# Altium footprint library SOD.PcbLib: 7 footprints
Each footprint in its own frame and in the unit in brackets; x right, y up, seen from the top. Pads: shape width x height; smd on the part's side, far side on the other; paste and mask are expansions set on the pad; w line width, h text height; cw(c..) or ccw(c..) is an arc to the next point about the centre after c.
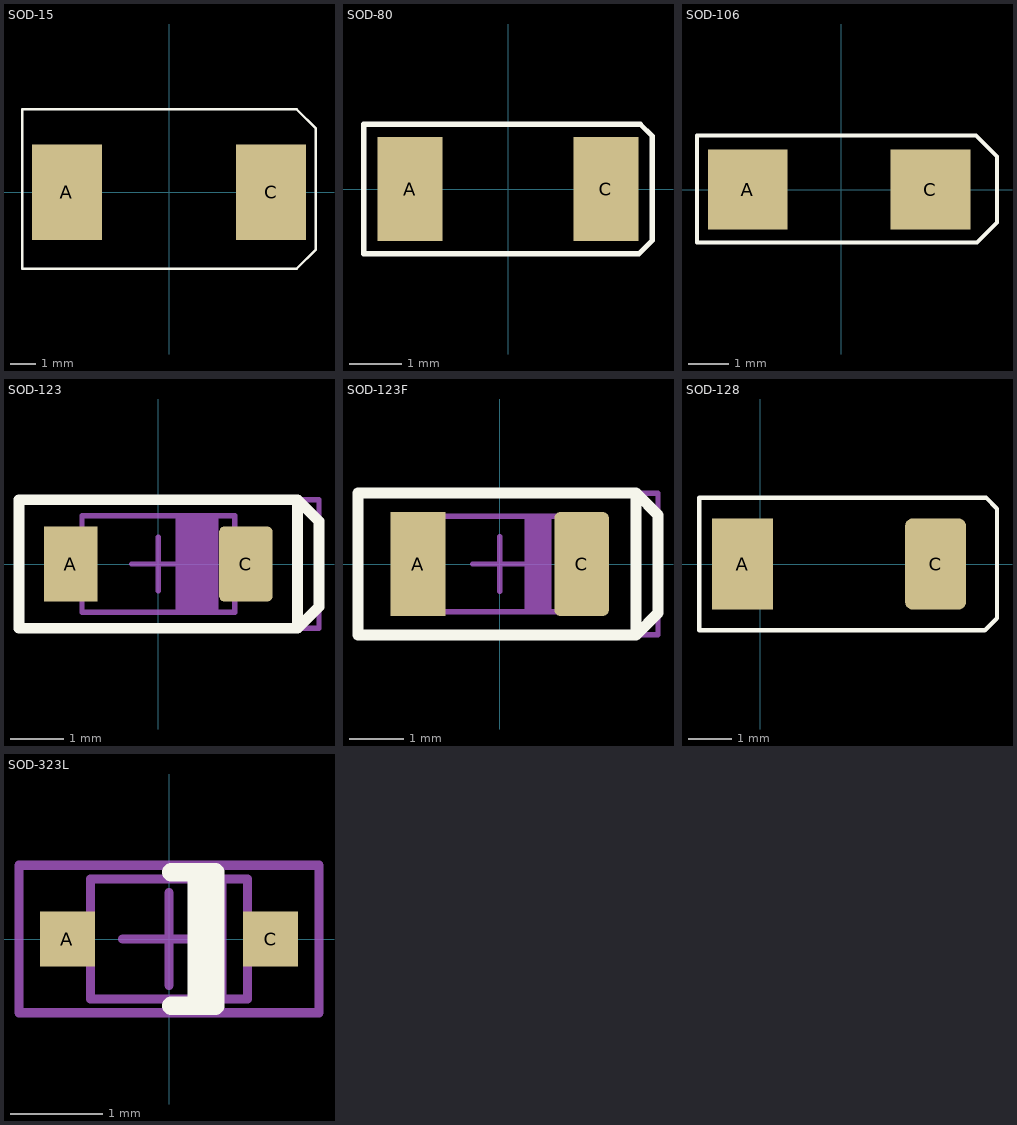
[diagram p0: the footprints below, top view; thin cyan lines are the x and y axes]

## SOD-15 [mil]
height 78.74
pads (2):
  rect 110x150 smd: A(-160,0) C(160,0)
Top Overlay:
  lines w3.94: -230,-120 -230,130 200,130 230,100 230,-90 200,-120 -230,-120
3D body "User Library-DO-214AB(SMC).step": height 105.12, standoff 1.12, extent -160,-129.01 160,118.99

## SOD-80 [mm]
pads (2):
  rect 1.25x2 smd: A(-1.88,0) C(1.88,0)
Top Overlay:
  lines w0.1: -2.769,-1.245 2.515,-1.245 2.769,-0.991 2.769,1.016 2.54,1.245 -2.769,1.245 -2.769,-1.245
3D body "User Library-SOD80-2.step": height 1.57, standoff 0.03, extent -1.676,-0.77 1.676,0.77

## SOD-106 [mm]
height 2
pads (2):
  rect 2x2 smd: A(-2.337,0) C(2.235,0)
Top Overlay:
  lines w0.1: -3.607,-1.321 -3.607,1.346 3.378,1.346 3.9,0.824 3.9,-0.824 3.404,-1.321 -3.607,-1.321
3D body "User Library-DO-214AC SMA.step": height 2.4, standoff 0, extent -2.651,-1.3 2.549,1.3

## SOD-123 [mm]
pads (2):
  rect 1x1.4 smd: A(-1.635,0)
  rrect20% 1x1.4 smd: C(1.635,0)
Top Overlay:
  lines w0.2: 2.6,-1.2 -2.6,-1.2 -2.6,1.2 2.6,1.2 ; 2.6,-1.2 2.6,1.2 ; 2.6,-1.2 3,-0.8 3,0.8 2.6,1.2
Top Package:
  rectangle: 0.375,-0.9 1.1,0.9
  lines w0.1: -1.425,-0.35 -1.925,-0.35 -1.925,0.35 -1.425,0.35 ; 0.375,-0.9 0.375,0.9 ; 1.075,-0.9 1.075,0.9 ; 1.425,-0.35 1.925,-0.35 1.925,0.35 1.425,0.35 ; -1.425,-0.9 1.425,-0.9 1.425,0.9 -1.425,0.9 -1.425,-0.9
Top Border:
  lines w0.1: -0.5,0 0.5,0 ; 0,-0.5 0,0.5 ; -2.6,-1.2 3,-1.2 3,1.2 -2.6,1.2 -2.6,-1.2
3D body "User Library-SOD-123_DiodesInc.step": height 1.42, standoff -0.03, extent -2,-0.886 1.85,0.814

## SOD-123F [mm]
height 0.95
pads (2):
  rect 1x1.9 smd: A(-1.5,0)
  rrect20% 1x1.9 smd: C(1.5,0)
Top Overlay:
  lines w0.2: 2.5,-1.2 2.5,1.2 ; -2.6,-1.3 2.5,-1.3 2.9,-0.9 2.9,0.9 2.5,1.3 -2.6,1.3 -2.6,-1.3
Top Package:
  region: 0.95,0.875 0.45,0.875 0.45,-0.875 0.95,-0.875
  lines w0.1: -1.35,-0.45 -1.7,-0.45 -1.7,0.45 -1.35,0.45 ; 1.35,-0.45 1.7,-0.45 1.7,0.45 1.35,0.45 ; -1.35,-0.875 1.35,-0.875 1.35,0.875 -1.35,0.875 -1.35,-0.875
Top Border:
  lines w0.1: -0.5,0 0.5,0 ; 0,-0.5 0,0.5 ; -2.6,-1.3 2.9,-1.3 2.9,1.3 -2.6,1.3 -2.6,-1.3
3D body "SOD-123FL.step": height 0.95, standoff 0, extent -1.8,-0.825 1.8,0.825

## SOD-128 [mm]
height 1
pads (2):
  rect 1.4x2.1 smd: A(-0.4,0)
  rrect25% 1.4x2.1 smd: C(4.025,0)
Top Overlay:
  lines w0.1: -1.4,-1.524 -1.4,1.524 5.182,1.524 5.436,1.27 5.436,-1.245 5.156,-1.524 -1.4,-1.524
3D body "SOD-128.step": height 1.11, standoff -0.05, extent -0.81,-1.354 4.39,1.346

## SOD-323L [mm]
height 1.05
pads (2):
  rect 0.6x0.6 smd: A(-1.1,0) C(1.1,0)
Top Overlay:
  region: 0.525,0.825 0.2,0.825 0.2,-0.825 0.525,-0.825
  lines w0.2: 0.025,-0.725 0.5,-0.725 0.5,0.725 0.025,0.725
Top Package:
  region: 0.625,0.65 0.225,0.65 0.225,-0.65 0.625,-0.65
  lines w0.1: -0.85,-0.175 -1.25,-0.175 -1.25,0.175 -0.85,0.175 ; 0.85,-0.175 1.25,-0.175 1.25,0.175 0.85,0.175 ; -0.85,-0.65 0.85,-0.65 0.85,0.65 -0.85,0.65 -0.85,-0.65
Top Border:
  lines w0.1: -0.5,0 0.5,0 ; 0,-0.5 0,0.5 ; 0.325,-0.5 0.325,0.5 ; -1.625,-0.8 -1.625,0.8 1.625,0.8 1.625,-0.8 -1.625,-0.8
3D body "SOD-323.step": height 1.1, standoff 0, extent -1.3,-0.675 1.3,0.675